# EAGLE library part BQ27501 (library isystems)
System-Side Impedance Track Fuel Gauge Battery Fuel Gauge for 1-Series Li-Ion Applications Resides on System Main Board Works With Embedded or Removable Battery Packs Works With Battery ID Resistor in Battery Pack Microcontroller Peripheral Provides: Accurate Battery Fuel Gauging Internal Temperature Sensor for System Temperature Reporting Battery Low Interrupt Warning Battery Insertion Indicator Battery ID Detection 96 Bytes of Non-Volatile Scratch-Pad FLASH Battery Fuel Gauge Based on Patented Impedance Track™ Technology Models the Battery Discharge Curve for Accurate Time-to-Empty Predictions Automatically Adjusts for Battery Aging, Battery Self-Discharge, and Temperature/Rate Inefficiencies Low-Value Sense Resistor (10R or Less) I2C™ Interface for Connection to System Microcontroller Port 12-Pin 2,5-mm x 4-mm SON Package Temperature Range: -40 to 85 Datasheet: http://www.ti.com/lit/ds/symlink/bq27501.pdf
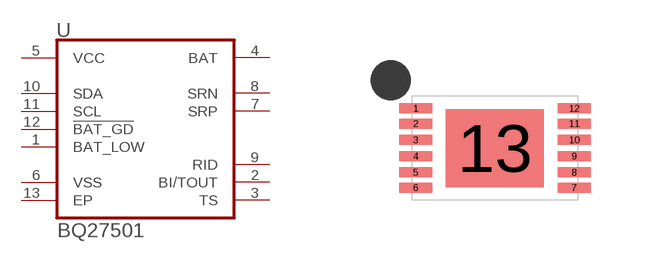
[diagram p14: symbol with the pads of SON12; footprint SON12]

Designator prefix U

## BQ27501 (MPN: BQ27501DRZT; OC_FARNELL: 1710789; OC_NEWARK: 50P9379; PACKAGE: SON-12; SUPPLIER: Texas Instruments)  [SON12]
1  BAT_LOW  out
2  BI/TOUT
3  TS  in
4  BAT  in
5  VCC  pwr
6  VSS  pas
7  SRP  in
8  SRN  in
9  RID  in
10  SDA
11  SCL  in
12  !BAT_GD  out
13  EP  pas

## Footprint SON12 (pad centres in mm)
smd 0.813 x 0.254: 1 -1.981,0.991; 2 -1.981,0.61; 3 -1.981,0.203; 4 -1.981,-0.203; 5 -1.981,-0.61; 6 -1.981,-0.991; 7 1.981,-0.991; 8 1.981,-0.61; 9 1.981,-0.203; 10 1.981,0.203; 11 1.981,0.61; 12 1.981,0.991
smd 2.45 x 1.95: 13 0,0